# Altium footprint library Supply Termainal.PcbLib: 1 footprints
Each footprint in its own frame and in the unit in brackets; x right, y up, seen from the top. Pads: shape width x height; smd on the part's side, far side on the other; paste and mask are expansions set on the pad; w line width, h text height; cw(c..) or ccw(c..) is an arc to the next point about the centre after c.
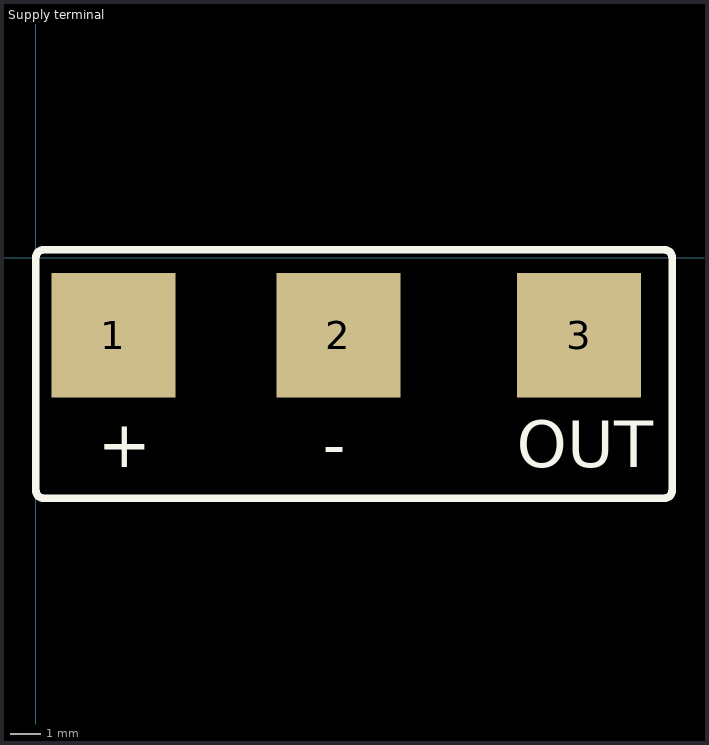
[diagram p0: the footprint, top view; thin cyan lines are the x and y axes]

## Supply terminal [mil]
pads (3):
  rect 160x160 all layers, no hole: 1(100,-100) 2(390,-100) 3(700,-100)
Top Overlay:
  lines w10: 0,-300 ccw(c10,-300) 10,-310 810,-310 ccw(c810,-300) 820,-300 820,0 ccw(c810,0) 810,10 10,10 ccw(c10,0) 0,0 0,-300
  text "-" at 370,-269.99 h60
  text "+" at 80,-270 h60
  text "OUT" at 620,-270 h60
Top Solder:
  text ".Designator" at 110,99.99 h60